# Altium schematic symbol library esp32_radar_1.SCHLIB: 1 symbol
Pins are listed as number, name and electrical type; pins without a type are passive.

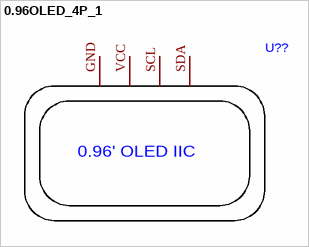
[diagram p0: symbol 0.96OLED_4P_1]

## 0.96OLED_4P_1
designator U??
footprint 0.96OLEDIIC
pins: GND, SCL, SDA, VCC
text: 0.96' OLED IIC